# Altium schematic symbol library LimeFEA-mPCIe_1v0.SchLib: 24 symbols
Pins are listed as number, name and electrical type; pins without a type are passive.

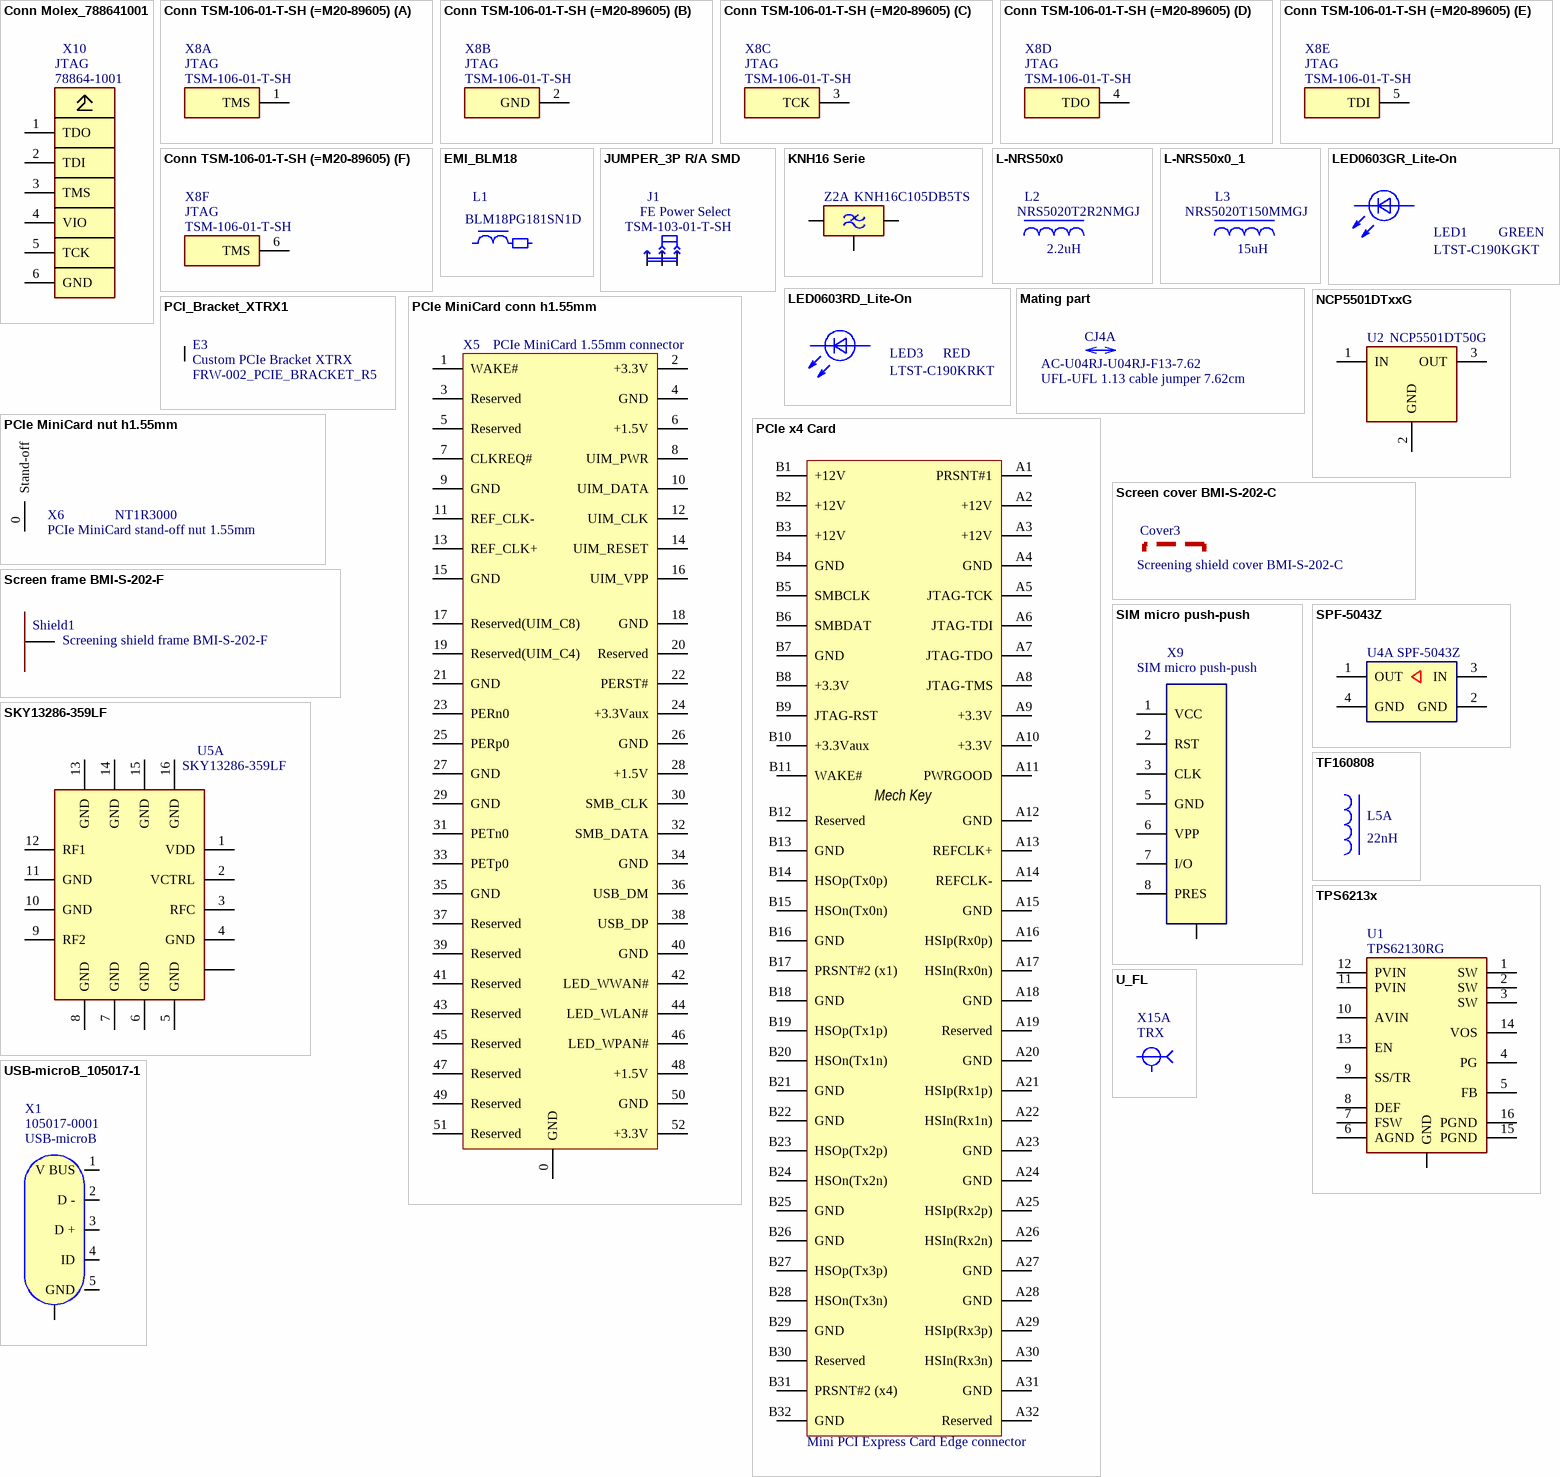
[diagram p0: symbols Conn Molex_788641001 to USB-microB_105017-1]

## Conn Molex_788641001
designator X10, comment JTAG  Name: 78864-1001
Connector board to board; Manufacturer: Molex; Misc: Connector board to board, 6 spring contacts; Value: JTAG; Link: https://octopart.com/78864-1001-molex-52668680?r=sp&s=CalIQCkHRmWKRIBINWJXJg
footprint Molex 78864-1001 (Spring connector, gap=1.2~1.6mm, pitch=1.6mm, 6pos)
pins: 1 TDO, 2 TDI, 3 TMS, 4 VIO, 5 TCK, 6 GND
2 alternate drawings of the same symbol

## Conn TSM-106-01-T-SH (=M20-89605)
designator X8, comment TSM-106-01-T-SH  value JTAG
Connector header male; Manufacturer: Samtec; Name: TSM-106-01-T-SH; Link: https://octopart.com/tsm-106-01-t-sh-samtec-8444065?r=sp&s=4nKo29egTCGXCLlTpUf1dA
footprint Head_Male_6P_R/A_SMD (Samtec Header Male 6p 2.54mm Right Angle SMD)
part A pins: 1 TMS
part B pins: 2 GND
part C pins: 3 TCK
part D pins: 4 TDO
part E pins: 5 TDI
part F pins: 6 TMS
2 alternate drawings of the same symbol

## EMI_BLM18
designator L1, comment BLM18PG181SN1D
Ferrite Bead EMIFIL; Manufacturer: MURATA; U/P/TKE: 180 Ohm, 90 mOhm,1.5A; Name: BLM18PG181SN1D; Link: https://octopart.com/blm18pg181sn1d-murata-755298?r=sp&s=UoqSqWT2SxaJq0Sn2mx1DQ
footprint TI160808-Phillips
footprint TI160808-HDI
pins: 1, 2
2 alternate drawings of the same symbol

## JUMPER_3P R/A SMD
designator J1, comment TSM-103-01-T-SH  value FE Power Select
Jumper 3 pin; Manufacturer: Samtec; Misc: SMT 3pin R/A jumper/connector; Name: TSM-103-01-T-SH; Link: https://octopart.com/tsm-103-01-t-sh-samtec-8024795?r=sp&s=QwI2rG3eQKmfzGqx_DrZCQ
footprint Head_Male_3P_R/A_SMD (Samtec Header Male 3p 2.54mm Right Angle SMD)
pins: 1, 2, 3
2 alternate drawings of the same symbol

## KNH16 Serie
designator Z2A, comment KNH16C105DB5TS
EMI Filter; Manufacturer: AVX / Kyocera; Misc: Power line EMI Filter 0603 Size; Value: 1uF/10V/2A; Name: KNH16C105DB5TS; Link: https://octopart.com/knh16c105db5ts-avx-21214733
footprint KNH16 - DB Serie (EMI Filter)
pins: 1, 2, 3
2 alternate drawings of the same symbol

## L-NRS50x0
designator L2, comment 2.2uH  Name: NRS5020T2R2NMGJ
Coil; Manufacturer: Taiyo Yuden; Tolerance: 20%; U/P/TKE: 2.9A/42mOhm; Value: 2.2uH; Link: https://octopart.com/nrs5020t150mmgj-taiyo+yuden-13146350
footprint L-NRS5030 (Inductor Taiyo Yuden 5x5mm)
pins: 1, 2
2 alternate drawings of the same symbol

## L-NRS50x0_1
designator L3, comment 15uH  Name: NRS5020T150MMGJ
Coil; Manufacturer: Taiyo Yuden; Tolerance: 20%; U/P/TKE: 1.1A/165mOhm; Value: 15uH; Link: https://octopart.com/nrs5020t150mmgj-taiyo+yuden-13146350
footprint L-NRS5030 (Inductor Taiyo Yuden 5x5mm)
pins: 1, 2
2 alternate drawings of the same symbol

## LED0603GR_Lite-On
designator LED1, comment LTST-C190KGKT  value GREEN
LED GREEN; Manufacturer: Lite-On Inc; U/P/TKE: 40mcd, 2V/20mA, -30+85°C; Name: LTST-C190KGKT; Link: https://octopart.com/ltst-c190kgkt-lite-on-549897
footprint LED-0603GR (LED GREEN 0603)
pins: 1 K, 2 A
2 alternate drawings of the same symbol

## LED0603RD_Lite-On
designator LED3, comment LTST-C190KRKT  value RED
LED RED; Manufacturer: Lite-On Inc; U/P/TKE: 100mcd, 2V/20mA, -30+85°C; Name: LTST-C190KRKT; Link: http://www.digikey.com/product-detail/en/LTST-C190KRKT/160-1436-1-ND/386816
footprint LED-0603RD (LED RED 0603)
pins: 1 K, 2 A
2 alternate drawings of the same symbol

## Mating part
designator CJ4A, comment AC-U04RJ-U04RJ-F13-7.62  Misc: UFL-UFL 1.13 cable jumper 7.62cm  (mechanical)
Cable jumper; Manufacturer: RFSupplier; Name: AC-U04RJ-U04RJ-F13-7.62; Link: https://rfsupplier.com/customcable.html
pins: ?1
2 alternate drawings of the same symbol

## NCP5501DTxxG
designator U2, comment NCP5501DT50G
IC LDO fixed Vo; Manufacturer: ON Semi; U/P/TKE: 5.0V/0.5A/3%; Name: NCP5501DT50G; Link: https://octopart.com/ncp5501dt50g-on+semiconductor-1008548?r=sp&s=uWahieJ2SIu9_CpFmEZfrA
footprint DPAK-3 (TO-252)
pins: 1 IN, 2 GND, 3 OUT
2 alternate drawings of the same symbol

## PCI_Bracket_XTRX1
designator E3, comment Custom PCIe Bracket XTRX  value FRW-002_PCIE_BRACKET_R5
CNC'ed enclosure component; Name: Custom PCIe Bracket XTRX; Link: https://drive.google.com/drive/u/0/folders/1H4kDKzo1hdiNwqkA16l54XGZ7OmraAuD
footprint Custom_PCIe_bracket_XTRX1 (3D STEP model of XTRX Custom-made PCIe bracket v1)
pins: 0
2 alternate drawings of the same symbol

## PCIe MiniCard conn h1.55mm
designator X5, comment PCIe MiniCard 1.55mm connector
Connector PCIe MiniCard; Manufacturer: JAE Electronics; Name: MM60-52B1-G1; Link: https://octopart.com/mm60-52b1-g1-r850-jae+electronics-19499790
footprint PCIe MiniCard 1.55mm conn (PCIe MiniCard connector full size with mounting nuts)
pins: 0 GND, 1 WAKE#, 2 +3.3V, 3 Reserved, 4 GND, 5 Reserved, 6 +1.5V, 7 CLKREQ#, 8 UIM_PWR, 9 GND, 10 UIM_DATA, 11 REF_CLK-, 12 UIM_CLK, 13 REF_CLK+, 14 UIM_RESET, 15 GND, 16 UIM_VPP, 17 Reserved(UIM_C8), 18 GND, 19 Reserved(UIM_C4), 20 Reserved, 21 GND, 22 PERST#, 23 PERn0, 24 +3.3Vaux, 25 PERp0, 26 GND, 27 GND, 28 +1.5V, 29 GND, 30 SMB_CLK, 31 PETn0, 32 SMB_DATA, 33 PETp0, 34 GND, 35 GND, 36 USB_DM, 37 Reserved, 38 USB_DP, 39 Reserved, 40 GND, 41 Reserved, 42 LED_WWAN#, 43 Reserved, 44 LED_WLAN#, 45 Reserved, 46 LED_WPAN#, 47 Reserved, 48 +1.5V, 49 Reserved, 50 GND, 51 Reserved, 52 +3.3V

## PCIe MiniCard nut h1.55mm
designator X6, comment NT1R3000  Misc: PCIe MiniCard stand-off nut 1.55mm
Stand-off nut PCIe MiniCard; Manufacturer: JAE Electronics; Link: https://octopart.com/nt1r3000-jae+electronics-19043816; Name: NT1R3000
footprint PCIe MiniCard 1.55mm stand off nut (PCIe MiniCard connector mounting stand off nut)
pins: 0 Stand-off

## PCIe x4 Card
designator X?, comment Mini PCI Express Card Edge connector  (no BOM)
PCIe x4 Card edge connector
footprint PCIe x4 edge connector (Golden finger, PCIe x4, Dual, Staggered, Pitch 1mm, 2x32-Position)
pins: A1 PRSNT#1, A2 +12V, A3 +12V, A4 GND, A5 JTAG-TCK, A6 JTAG-TDI, A7 JTAG-TDO, A8 JTAG-TMS, A9 +3.3V, A10 +3.3V, A11 PWRGOOD, A12 GND, A13 REFCLK+, A14 REFCLK-, A15 GND, A16 HSIp(Rx0p), A17 HSIn(Rx0n), A18 GND, A19 Reserved, A20 GND, A21 HSIp(Rx1p), A22 HSIn(Rx1n), A23 GND, A24 GND, A25 HSIp(Rx2p), A26 HSIn(Rx2n), A27 GND, A28 GND, A29 HSIp(Rx3p), A30 HSIn(Rx3n), A31 GND, A32 Reserved, B1 +12V, B2 +12V, B3 +12V, B4 GND, B5 SMBCLK, B6 SMBDAT, B7 GND, B8 +3.3V, B9 JTAG-RST, B10 +3.3Vaux, B11 WAKE#, B12 Reserved, B13 GND, B14 HSOp(Tx0p), B15 HSOn(Tx0n), B16 GND, B17 PRSNT#2 (x1), B18 GND, B19 HSOp(Tx1p), B20 HSOn(Tx1n), B21 GND, B22 GND, B23 HSOp(Tx2p), B24 HSOn(Tx2n), B25 GND, B26 GND, B27 HSOp(Tx3p), B28 HSOn(Tx3n), B29 GND, B30 Reserved, B31 PRSNT#2 (x4), B32 GND
text: Mech Key

## Screen cover BMI-S-202-C
designator Cover3, comment Screening shield cover BMI-S-202-C  (mechanical)
Screening shield cover; Manufacturer: Laird Tech; Name: Screening shield cover BMI-S-202-C; Link: https://octopart.com/bmi-s-202-c-laird-19008953
2 alternate drawings of the same symbol

## Screen frame BMI-S-202-F
designator Shield1, comment Screening shield frame BMI-S-202-F
Screening shield frame; Manufacturer: Laird Tech; Name: Screening shield frame BMI-S-202-F; Link: https://octopart.com/bmi-s-202-f-laird-19008954
footprint BMI-S-202-F (Screening Shield Frame 16.5x16.5x3.6mm)
pins: 0 GND
2 alternate drawings of the same symbol

## SIM micro push-push
designator X9
Connector SIM micro card; Manufacturer: JAE; Value: SF56S006V4BR2000; Link: https://octopart.com/sf56s006v4br2000-jae+electronics-55772495?r=sp&s=RZW5_ItfTZ2wF5MtOkXdLQ; Misc: *
footprint SIM_SF56S006V4BR2000-dig (JAE push-push, micro SIM card holder)
pins: 0 GND, 1 VCC, 2 RST, 3 CLK, 5 GND, 6 VPP, 7 I/O, 8 PRES

## SKY13286-359LF
designator U5A
IC RF SPDT Absorptive Switch; Manufacturer: Skyworks; Misc: SPDT 0.1-6 GHz Hi Isol Absorptive Switch; Swap: No; U/P/TKE: 3-5V; Name: SKY13286-359LF; Link: https://octopart.com/sky13286-359lf-skyworks+solutions-3998422
footprint QFN16(4x4/0.65mm) SQ (QFN, 16-Leads, Body 4,0x4,0mm (SQ), Pitch 0,65mm, IPC High Density)
pins: 0 PAD, 1 VDD, 2 VCTRL, 3 RFC, 4 GND, 5 GND, 6 GND, 7 GND, 8 GND, 9 RF2, 10 GND, 11 GND, 12 RF1, 13 GND, 14 GND, 15 GND, 16 GND

## SPF-5043Z
designator U4A
IC; Manufacturer: RFMD; Swap: No; Name: SPF-5043Z; Link: https://octopart.com/search?q=SPF+5043Z
footprint SOT-343[2X1.25]
pins: 1 OUT, 2 GND (power), 3 IN, 4 GND (power)

## TF160808
designator L5A, comment 22nH
Coil; Manufacturer: MuRata; Misc: Self Resonance >4GHz; Name: LQW18AN22NG00D; Value: 22nH; Link: https://octopart.com/lqw18an22ng00d-murata-890271
footprint TF160808-Phillips
footprint TF160808-HDI
pins: 1, 2
2 alternate drawings of the same symbol

## TPS6213x
designator U1, comment TPS62130RG
IC; Manufacturer: TI; Swap: No; U/P/TKE: 3-17V; Name: TPS62130RG; Link: https://octopart.com/search?q=tps62130rg; PDF: http://www.ti.com/lit/ds/symlink/tps62130.pdf
footprint QFN16(3x3/0/5mm)-Case485AE (NLAS3899)
pins: 0 GND, 1 SW, 2 SW, 3 SW, 4 PG, 5 FB, 6 AGND, 7 FSW, 8 DEF, 9 SS/TR, 10 AVIN, 11 PVIN, 12 PVIN, 13 EN, 14 VOS, 15 PGND, 16 PGND
1 alternate drawing of the same symbol

## U_FL
designator X15A, comment Misc: TRX  (hidden comment: 0734120110)
Connector (UMCC); Manufacturer: Molex; Name: 0734120110; Link: https://octopart.com/0734120110-molex-16756629
footprint U_FL (Ultraminiature Coax Connector (UMCC))
pins: 1 "Sygnal", 2 GND
2 alternate drawings of the same symbol

## USB-microB_105017-1
designator X1, comment 105017-0001  Name: USB-microB
Connector microUSB-B; Manufacturer: MOLEX; Value: 105017-0001; Link: https://octopart.com/1050170001-molex-11866487?r=sp&s=Om3EEUYtRd-BHyhqotd9rA
footprint USB-micro-B (Molex 105017-0001)
pins: 0 GND, 1 V BUS (power), 2 D -, 3 D +, 4 ID, 5 GND
1 alternate drawing of the same symbol